# Altium schematic symbol library CommonComponents_DIY.SchLib: 8 symbols
Pins are listed as number, name and electrical type; pins without a type are passive.

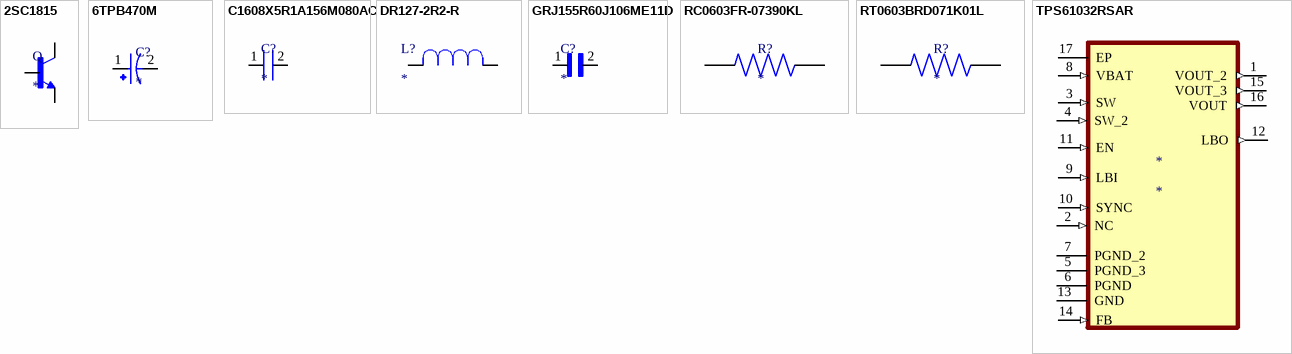
[diagram p0: symbols 2SC1815 to TPS61032RSAR]

## 2SC1815
designator Q
Transistor GP BJT NPN 50V 150mA 3-Pin TO-92 Box; Manufacturer Part Number: 2SC1815 PBFREE; MP: 2SC1815; MF: Central Semiconductor; Package: - Central Semiconductor; Availability: Unavailable; Value: *; SnapEDA_Link: https://www.snapeda.com/parts/2SC1815/Central%20Semiconductor/view-part/4614189/?ref=snap; Price: None; Supplier 1: Digi-Key; Supplier Part Number 1: 1514-2SC1815PBFREE-ND; Manufacturer: Central Semiconductor; RoHS: Yes; Stock 1: 8551; Pricing 1: 1=0.98000, 10=0.87700, 100=0.68340, 500=0.56458, 1000=0.44572, 2000=0.42050 (USD); RoHS Compliant: Yes
footprint 2SC1815
pins: 1 E, 2 C, 3 B

## 6TPB470M
designator C?
Cap Tant Solid 470uF 6.3V D4 CASE 20% (7.3 X 4.3 X 3.8mm) SMD 7343 0.035 Ohm 105 C Embossed T/R; Manufacturer: Panasonic; MP: 6TPB470M; Material: Polymer; ESR (Equivalent Series Resistance): 35mR; Leakage Current: 296.1uA; Polarity: Polar; Dissipation Factor: 15%; Ripple Current: 3A; Package: None; Price: None; Value: *; Availability: Unavailable; Supplier 1: Digi-Key; Supplier Part Number 1: P16619CT-ND; Manufacturer Part Number: 6TPB470M; RoHS: Yes; Category: Tantalum Capacitors; Stock 1: 1296; Pricing 1: 1=2.80000, 10=2.26600, 50=1.97800, 100=1.73070, 500=1.31860, 1000=1.15378 (USD); Mount: Surface Mount; Case/Package: 2917; Number of Pins: 4; Case Code (Imperial): 2917; Case Code (Metric): 7343; Min Operating Temperature: -55°C; Max Operating Temperature: 105°C; Tolerance: 20%; Capacitance: 470uF; Packaging: Tape and Reel; Voltage Rating: 6.3V; Voltage Rating (DC): 6.3V; Termination: SMD/SMT; Package Quantity: 2000; Voltage: 6.3V; Length: 7.3mm; Width: 4.3mm; Height: 3.8mm; Depth: 4.3mm; Height - Seated (Max): 0.157inch; Radiation Hardening: No; REACH SVHC: No SVHC; Lead Free: Lead Free; RoHS Compliant: Yes; ComponentLink1URL: https://datasheet.ciiva.com/48675/aaa8000ce6-48675082.pdf?src-supplier=Avnet; ComponentLink1Description: https://datasheet.ciiva.com/48675/aaa8000ce6-48675082.pdf?src-supplier=Avnet; ComponentLink2URL: https://datasheet.ciiva.com/26840/getdatasheetpartid-747821-26840892.pdf?src-supplier=Verical; ComponentLink2Description: https://datasheet.ciiva.com/26840/getdatasheetpartid-747821-26840892.pdf?src-supplier=Verical; ComponentLink3URL: https://datasheet.ciiva.com/22745/1734361-22745321.pdf?src-supplier=Element14; ComponentLink3Description: https://datasheet.ciiva.com/22745/1734361-22745321.pdf?src-supplier=Element14
footprint 6TPB470M
pins: 1, 2

## C1608X5R1A156M080AC
designator C?
C Series 0603 15 uF 10 V ±20% Tolerance X5R Multilayer Ceramic Chip Capacitor; MP: C1608X5R1A156M080AC; MF: TDK; Capacitance: 15uF; Voltage Rating: 10V; Availability: Unavailable; Value: *; Package: 1608 TDK; Price: None; SnapEDA_Link: https://www.snapeda.com/parts/C1608X5R1A156M080AC/TDK-Lambda%20Americas%20Inc/view-part/1766216/?ref=snap; Supplier 1: Digi-Key; Supplier Part Number 1: 445-9117-2-ND; Manufacturer: TDK; Manufacturer Part Number: C1608X5R1A156M080AC; RoHS: Yes; Category: Ceramic Capacitors; Stock 1: 68385; Pricing 1: 4000=0.12155, 8000=0.11440 (USD); Mount: Surface Mount; Case/Package: 0603; Case Code (Metric): 1608; Case Code (Imperial): 0603; Weight: 7.1E-05oz; Dielectric Material: Ceramic; Min Operating Temperature: -55°C; Max Operating Temperature: 85°C; Tolerance: 20%; Packaging: Tape and Reel; Termination: SMD/SMT; Series: C; Package Quantity: 1; Voltage Rating (DC): 10V; Dielectric: X5R; Resistor Type: Ceramic; Length: 1.6mm; Width: 0.031inch; Height: 0.8mm; Thickness: 0.035inch; Depth: 0.8mm; REACH SVHC: Unknown; Lead Free: Lead Free; RoHS Compliant: Yes; ComponentLink1URL: https://datasheet.ciiva.com/6287/tdkmlcccaprange-6287950.pdf?src-supplier=Digi-Key; ComponentLink1Description: https://datasheet.ciiva.com/6287/tdkmlcccaprange-6287950.pdf?src-supplier=Digi-Key; ComponentLink2URL: https://datasheet.ciiva.com/24217/mlcc-commercial-general-en-24217037.pdf?src-supplier=Mouser; ComponentLink2Description: https://datasheet.ciiva.com/24217/mlcc-commercial-general-en-24217037.pdf?src-supplier=Mouser
footprint CAPC1608X90N
pins: 1, 2

## DR127-2R2-R
designator L?
Ind Power Shielded Wirewound 2.2uH 20% 100KHz Ferrite 12.5A T/R; Manufacturer: Eaton Cooper; MP: DR127-2R2-R; MF: Eaton; Max DC Current: 25.5A; DC Resistance (DCR): 4.02mR; Price: None; SnapEDA_Link: https://www.snapeda.com/parts/DR127-2R2-R/Eaton/view-part/498534/?ref=snap; Value: *; Mouser-Purchase-URL: https://snapeda.com/shop?store=Mouser&id=498534; Availability: Warning; Package: Nonstandard Coiltronics; DigiKey-Purchase-URL: https://snapeda.com/shop?store=DigiKey&id=498534; Supplier 1: Digi-Key; Supplier Part Number 1: 513-1220-1-ND; Manufacturer Part Number: DR127-2R2-R; RoHS: Yes; Category: Fixed Inductors; Stock 1: 200; Pricing 1: 1=1.50000, 10=1.39400, 25=1.28720, 50=1.07240, 100=1.00820 (USD); Mount: Surface Mount; Case/Package: Nonstandard; Core Material: Ferrite; Weight: 0.208oz; Min Operating Temperature: -40°C; Max Operating Temperature: 125°C; Tolerance: 20%; Inductance: 2.2uH; Inductance Tolerance: 20%; Packaging: Tape and Reel; Shielding: Shielded; Package Quantity: 350; Current Rating: 12.5A; Saturation Current: 25.5A; Resistor Type: Wirewound; Test Frequency: 100kHz; Termination: SMD/SMT; RMS Current (Irms): 12.5A; DC Current: 12.5A; Self Resonant Frequency: 100kHz; Series: DR; Rated Current-Max: 12.5A; Length: 12.5mm; Width: 0.492inch; Height: 8mm; Height - Seated (Max): 0.315inch; Depth: 12.5mm; Radiation Hardening: No; REACH SVHC: No SVHC; Military Standard: Not; Lead Free: Lead Free; ComponentLink1URL: https://datasheet.ciiva.com/14667/0900766b8116a153-14667792.pdf?src-supplier=RSComponents; ComponentLink1Description: https://datasheet.ciiva.com/14667/0900766b8116a153-14667792.pdf?src-supplier=RSComponents; ComponentLink2URL: https://datasheet.ciiva.com/26858/getdatasheetpartid-246998-26858414.pdf?src-supplier=Verical; ComponentLink2Description: https://datasheet.ciiva.com/26858/getdatasheetpartid-246998-26858414.pdf?src-supplier=Verical; ComponentLink3URL: https://datasheet.ciiva.com/30226/43bus-elx-ds-4315-dr-ser-30226599.pdf?src-supplier=Onlinecomponents.com; ComponentLink3Description: https://datasheet.ciiva.com/30226/43bus-elx-ds-4315-dr-ser-30226599.pdf?src-supplier=Onlinecomponents.com; ComponentLink4URL: https://datasheet.ciiva.com/8004/87246-8004873.pdf?src-supplier=Element14; ComponentLink4Description: https://datasheet.ciiva.com/8004/87246-8004873.pdf?src-supplier=Element14; ComponentLink5URL: https://datasheet.ciiva.com/16226/bus-elx-ds-4315-dr-series-16226311.pdf?src-supplier=Future+Electronics; ComponentLink5Description: https://datasheet.ciiva.com/16226/bus-elx-ds-4315-dr-series-16226311.pdf?src-supplier=Future+Electronics; ComponentLink6URL: https://datasheet.ciiva.com/16940/70037876-16940757.pdf?src-supplier=Allied+Electronics; ComponentLink6Description: https://datasheet.ciiva.com/16940/70037876-16940757.pdf?src-supplier=Allied+Electronics
footprint DR127-2R2-R
pins: 1, 2

## GRJ155R60J106ME11D
designator C?
Capacitor Ceramic Mlcc 0402 10UF 6.3V SMD; Manufacturer: Murata; Manufacturer Part Number: GRJ155R60J106ME11D; Tolerance: 20%; Supplier 1: Digi-Key; RoHS: Yes; Category: Ceramic Capacitors; Stock 1: 1880133; Pricing 1: 10000=0.03490, 20000=0.03307 (USD); Mount: Surface Mount; Case/Package: 0402; Case Code (Metric): 1005; Case Code (Imperial): 0402; Min Operating Temperature: -55°C; Max Operating Temperature: 85°C; Packaging: Cut Tape; Capacitance: 10uF; Voltage Rating: 6.3V; Features: Soft Termination; Length: 0.039inch; Width: 0.02inch; Thickness: 0.028inch; RoHS Compliant: Yes; ComponentLink1URL: http://psearch.en.murata.com/capacitor/product/GRJ155R60J106ME11%23.pdf?src-supplier=Digi-Key; ComponentLink1Description: http://psearch.en.murata.com/capacitor/product/GRJ155R60J106ME11%23.pdf?src-supplier=Digi-Key
footprint GRJ155R60J106ME11D
pins: 1, 2

## RC0603FR-07390KL
designator R?
Res Thick Film 0603 390K Ohm 1% 0.1W(1/10W) ±100ppm/C Pad SMD T/R; Manufacturer: Yageo; MP: RC0603FR-07390KL; Resistance: 390kR; Power Rating: 100mW; Voltage Rating: 50V; Temperature Coefficient: 100ppm/°C; Working Voltage: 75V; Package: None; Price: None; Value: *; Availability: Unavailable; Supplier 1: Digi-Key; Supplier Part Number 1: 311-390KHRTR-ND; Manufacturer Part Number: RC0603FR-07390KL; RoHS: Yes; Category: Chip SMD Resistors; Stock 1: 124633; Pricing 1: 5000=0.00312 (USD); Case/Package: 0603; Number of Pins: 2; Case Code (Imperial): 0603; Case Code (Metric): 1608; Min Operating Temperature: -55°C; Max Operating Temperature: 155°C; Tolerance: 1%; Packaging: Tape and Reel; Voltage Rating (DC): 50V; Package Quantity: 1; Termination: SMD/SMT; Resistor Type: Thick Film; Number of Terminations: 2; Max Power Dissipation: 100mW; Features: Moisture Resistant; Series: RC; Resistance Tolerance: 1%; Construction: Rectangular; Technology: METAL OXIDE FILM; Length: 1.6mm; Width: 0.031inch; Height: 0.022inch; Depth: 0.8mm; REACH SVHC: Unknown; Military Standard: Not; Lead Free: Lead Free; RoHS Compliant: Yes; ComponentLink1URL: https://datasheet.ciiva.com/5557/rc0603-5557952.pdf?src-supplier=Mouser; ComponentLink1Description: https://datasheet.ciiva.com/5557/rc0603-5557952.pdf?src-supplier=Mouser; ComponentLink2URL: https://datasheet.ciiva.com/11819/0900766b80f96399-11819357.pdf?src-supplier=RSComponents; ComponentLink2Description: https://datasheet.ciiva.com/11819/0900766b80f96399-11819357.pdf?src-supplier=RSComponents; ComponentLink3URL: https://datasheet.ciiva.com/2454/pyu-r-int-thick-7-2454246.pdf?src-supplier=Digi-Key; ComponentLink3Description: https://datasheet.ciiva.com/2454/pyu-r-int-thick-7-2454246.pdf?src-supplier=Digi-Key; ComponentLink4URL: https://datasheet.ciiva.com/2454/pyu-r-int-thick-7-2454247.pdf?src-supplier=Digi-Key; ComponentLink4Description: https://datasheet.ciiva.com/2454/pyu-r-int-thick-7-2454247.pdf?src-supplier=Digi-Key; ComponentLink5URL: https://datasheet.ciiva.com/2454/pyu-r-int-thick-7-2454248.pdf?src-supplier=Digi-Key; ComponentLink5Description: https://datasheet.ciiva.com/2454/pyu-r-int-thick-7-2454248.pdf?src-supplier=Digi-Key
footprint RC0603FR-07390KL
pins: 1, 2

## RT0603BRD071K01L
designator R?
Res High precision Thin Film 0603 1.01K Ohm 0.1% 1/10W ±25ppm/°C Molded SMD Paper T/R; Manufacturer: Yageo; MP: RT0603BRD071K01L; Resistance: 1.01kR; Max Power Dissipation: 100mW; Package: None; Price: None; Value: *; Availability: Unavailable; Supplier 1: Digi-Key; Supplier Part Number 1: YAG4489CT-ND; Manufacturer Part Number: RT0603BRD071K01L; RoHS: Yes; Category: Chip SMD Resistors; Stock 1: 4948; Pricing 1: 1=0.34000, 10=0.28800, 100=0.11260, 1000=0.04716, 2500=0.04322 (USD); Case/Package: 0603; Min Operating Temperature: -55°C; Max Operating Temperature: 155°C; Packaging: Tape and Reel; Resistor Type: Thin Film; Number of Terminations: 2; Tolerance: 0.1%; Temperature Coefficient: 25ppm/°C; Features: Moisture Resistant; Length: 0.063inch; Width: 0.031inch; Height: 0.022inch; RoHS Compliant: Yes; ComponentLink1URL: http://www.yageo.com/documents/recent/PYu-RT_1-to-0.01_RoHS_L_9.pdf?src-supplier=Digi-Key; ComponentLink1Description: http://www.yageo.com/documents/recent/PYu-RT_1-to-0.01_RoHS_L_9.pdf?src-supplier=Digi-Key
footprint RT0603BRD071K01L
pins: 1, 2

## TPS61032RSAR
designator *
5-V Output, 1-A, 96% Efficient Boost Converter w/20uA Iq in TSSOP-16 16-QFN -40 to 85; Manufacturer: Texas Instruments; Manufacturer Part Number: TPS61032RSAR; Number of Outputs: 1; Output Voltage: 5V; Output Current: 1A; Min Input Voltage: 1.8V; Max Input Voltage: 5.5V; Switching Frequency: 600kHz; Synchronous Rectifier: Yes; Quiescent Current: 20uA; Output Type: Fixed; Output Configuration: Positive; Supplier 1: Digi-Key; RoHS: Yes; Category: Voltage Regulators - Switching; Stock 1: 952; Pricing 1: 1=3.13000, 10=2.80800, 25=2.65440, 100=2.30060, 250=2.18260, 500=1.95844, 1000=1.94775 (USD); Mount: Surface Mount; Case/Package: VQFN; Number of Pins: 16; Weight: 0.001464oz; Min Operating Temperature: -40°C; Max Operating Temperature: 85°C; Efficiency: 96%; Packaging: Tape and Reel; Package Quantity: 1; Max Output Current: 1A; Topology: Boost; Operating Supply Voltage: 5.5V; Series: -; Min Output Voltage: 5V; Nominal Output Voltage: 5V; Width: 4mm; Radiation Hardening: No; Lead Free: Lead Free; RoHS Compliant: Yes; REACH SVHC: No SVHC; ComponentLink1URL: https://datasheet.ciiva.com/15113/getdatasheetpartid-188315-15113727.pdf?src-supplier=Verical; ComponentLink1Description: https://datasheet.ciiva.com/15113/getdatasheetpartid-188315-15113727.pdf?src-supplier=Verical; ComponentLink2URL: https://datasheet.ciiva.com/26896/tps61032rsar-26896598.pdf?src-supplier=IIIC; ComponentLink2Description: https://datasheet.ciiva.com/26896/tps61032rsar-26896598.pdf?src-supplier=IIIC; ComponentLink3URL: https://datasheet.ciiva.com/2026/tps61030-2026189.pdf?src-supplier=Digi-Key; ComponentLink3Description: https://datasheet.ciiva.com/2026/tps61030-2026189.pdf?src-supplier=Digi-Key; ComponentLink4URL: https://datasheet.ciiva.com/2026/tps61030-2026190.pdf?src-supplier=Digi-Key; ComponentLink4Description: https://datasheet.ciiva.com/2026/tps61030-2026190.pdf?src-supplier=Digi-Key; ComponentLink5URL: https://datasheet.ciiva.com/2026/tps61030-2026191.pdf?src-supplier=Digi-Key; ComponentLink5Description: https://datasheet.ciiva.com/2026/tps61030-2026191.pdf?src-supplier=Digi-Key; ComponentLink6URL: https://datasheet.ciiva.com/22684/1902788-22684647.pdf?src-supplier=Element14; ComponentLink6Description: https://datasheet.ciiva.com/22684/1902788-22684647.pdf?src-supplier=Element14
footprint TPS61032RSAR
pins: 1 VOUT_2 (out), 2 NC (in), 3 SW (in), 4 SW_2 (in), 5 PGND_3, 6 PGND, 7 PGND_2, 8 VBAT (in), 9 LBI (in), 10 SYNC (in), 11 EN (in), 12 LBO (out), 13 GND, 14 FB (in), 15 VOUT_3 (out), 16 VOUT (out), 17 EP